# Altium footprint library Transistors.PcbLib: 3 footprints
Each footprint in its own frame and in the unit in brackets; x right, y up, seen from the top. Pads: shape width x height; smd on the part's side, far side on the other; paste and mask are expansions set on the pad; w line width, h text height; cw(c..) or ccw(c..) is an arc to the next point about the centre after c.
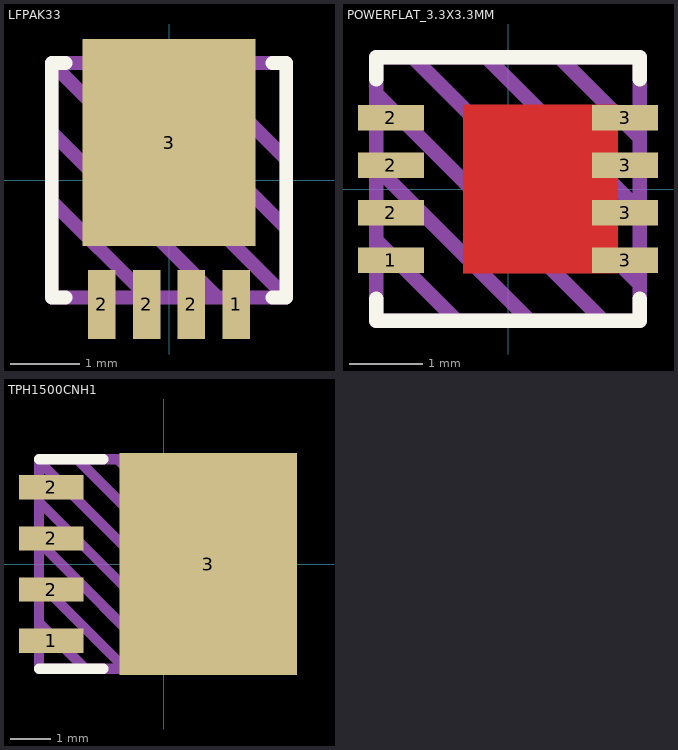
[diagram p0: the footprints below, top view; thin cyan lines are the x and y axes]

## LFPAK33 [mm] "SOT1210"
pads (5):
  rect 0.4x1 smd paste+0: 1(0.975,-1.8) 2(-0.975,-1.8) 2(-0.325,-1.8) 2(0.325,-1.8)
  rect 2.5x3 smd paste+0: 3(0,0.546)
Top Overlay:
  lines w0.2: -1.5,-1.7 -1.7,-1.7 -1.7,1.7 -1.5,1.7 ; 1.5,-1.7 1.7,-1.7 1.7,1.7 1.5,1.7
Top Draw:
  lines w0.2: -1.7,-0.3 -0.3,-1.7 ; -1.7,0.7 0.7,-1.7 ; -0.7,1.7 1.7,-0.7 ; 0.3,1.7 1.7,0.3 ; -1.7,1.7 1.7,1.7 1.7,-1.7 ; -1.7,1.7 -1.7,-1.7 1.7,-1.7 ; -1.7,1.7 1.7,-1.7
Top Info:
  text "'.Comment'" at -2.124,-3.092 h0.5
3D body "PSMN075-100MSEX.STEP": height 0.9, standoff 0, extent -1.65,-1.65 1.65,1.65

## POWERFLAT_3.3X3.3MM [mm]
pads (8):
  rect 0.9x0.35 smd paste+0: 1(-1.6,-0.975) 2(-1.6,-0.325) 2(-1.6,0.325) 2(-1.6,0.975) 3(1.6,-0.975) 3(1.6,-0.325) 3(1.6,0.325) 3(1.6,0.975)
Top Layer:
  region: 1.499,-1.15 1.499,1.15 -0.61,1.15 -0.61,-1.15
Top Overlay:
  lines w0.2: -1.8,-1.5 -1.8,-1.8 1.8,-1.8 1.8,-1.5 ; -1.8,1.5 -1.8,1.8 1.8,1.8 1.8,1.5
Top Solder:
  region: 1.499,-1.181 1.499,1.181 -0.61,1.181 -0.61,-1.181
Top Draw:
  lines w0.2: -1.8,-0.7 -0.7,-1.8 ; -1.8,0.3 0.3,-1.8 ; -1.8,1.3 1.3,-1.8 ; -1.3,1.8 1.8,-1.3 ; -0.3,1.8 1.8,-0.3 ; 0.7,1.8 1.8,0.7 ; -1.8,-1.8 -1.8,1.8 1.8,1.8 1.8,-1.8 -1.8,-1.8
Top Info:
  text "'.Comment'" at -2.124,-2.692 h0.5
3D body "POWERFLAT_3P3X3P3_STM.step": height 0.89, standoff 0, extent -1.753,-1.753 1.753,1.753

## TPH1500CNH1 [mm]
pads (5):
  rect 1.6x0.6 smd: 1(-2.794,-1.905) 2(-2.794,-0.635) 2(-2.794,0.635) 2(-2.794,1.905)
  rect 4.4x5.5 smd: 3(1.1,0)
Top Overlay:
  lines w0.25: -3.1,-2.6 -1.5,-2.6 ; -3.1,2.6 -1.5,2.6
Top Draw:
  lines w0.25: -3.1,-1.45 -1.95,-2.6 ; -3.1,-0.45 -0.95,-2.6 ; -3.1,0.55 0.05,-2.6 ; -3.1,1.55 1.05,-2.6 ; -3.1,2.55 2.05,-2.6 ; -2.15,2.6 3,-2.55 ; -1.15,2.6 3,-1.55 ; -0.15,2.6 3,-0.55 ; 0.85,2.6 3,0.45 ; 1.85,2.6 3,1.45 ; -3.1,-2.6 3,-2.6 3,2.6 -3.1,2.6 -3.1,-2.6
Top Info:
  text "'.Comment'" at -3.186,-3.937 h0.75
3D body "TPH1500CNH1.step": height 1.01, standoff 0, extent -3.085,-2.6 3.085,2.6